# Altium footprint library Buttons_and_Switches.PcbLib: 1 footprints
Each footprint in its own frame and in the unit in brackets; x right, y up, seen from the top. Pads: shape width x height; smd on the part's side, far side on the other; paste and mask are expansions set on the pad; w line width, h text height; cw(c..) or ccw(c..) is an arc to the next point about the centre after c.
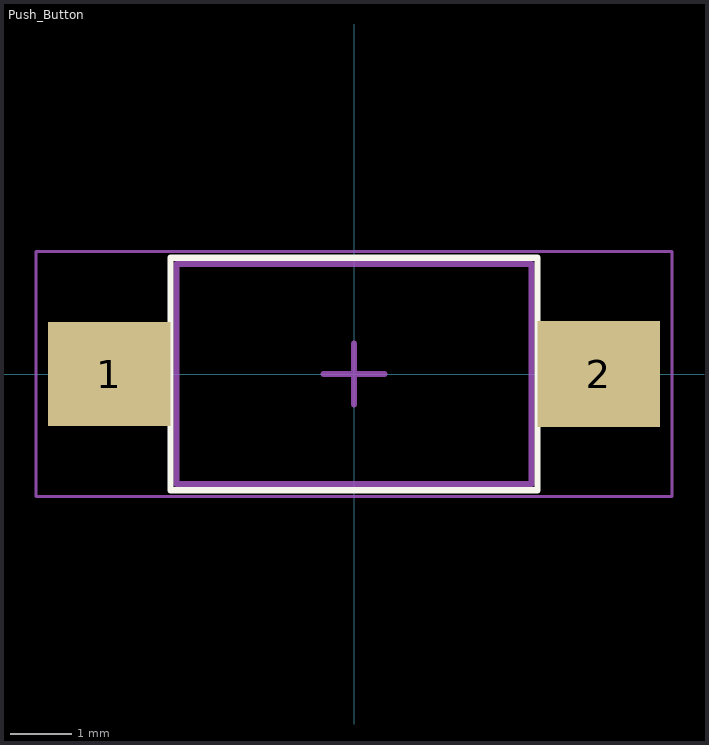
[diagram p0: the footprint, top view; thin cyan lines are the x and y axes]

## Push_Button [mm] "Chip Resistor, 2-Leads, Body 5,20x3,30mm, IPC Medium Density"
height 1.4
pads (2):
  rect 2x1.7 smd: 1(-4,0)
  rect 2x1.73 smd: 2(4,0)
Top Overlay:
  lines w0.1: -3,-1.9 -3,1.9 3,1.9 3,-1.9 -3,-1.9
Mechanical 13:
  lines w0.1: -2.9,-1.8 2.9,-1.8 2.9,1.8 -2.9,1.8 -2.9,-1.8
Mechanical 15:
  lines w0.05: -5.2,-2 5.2,-2 5.2,2 -5.2,2 -5.2,-2
  lines w0.1: -0.5,0 0.5,0 ; 0,-0.5 0,0.5
3D body: height 3.7, standoff 0, extent -1,-0.5 1,0.5
3D body: height 3, standoff 0, extent -2.9,-1.8 2.9,1.8